# Altium schematic symbol library GRM188R71H104KA93D.SchLib: 1 symbol
Pins are listed as number, name and electrical type; pins without a type are passive.

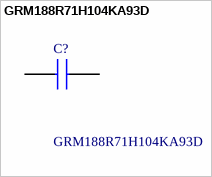
[diagram p0: symbol GRM188R71H104KA93D]

## GRM188R71H104KA93D
designator C?
Ceramic  SMT capacitor 100nF 50Vdc Murata 0603 GRM 100nF Ceramic Multilayer Capacitor, 50 V dc, +125?C, X7R Dielectric, ?10%; Manufacturer_Name: Murata Electronics; Geometry.Height: 0.9mm; Manufacturer_Part_Number: GRM188R71H104KA93D; Mouser Part Number: 81-GRM39X104K50D; Mouser Price/Stock: https://www.mouser.co.uk/ProductDetail/Murata-Electronics/GRM188R71H104KA93D?qs=f7ZljCwbPOm85Y6l%2FNGt7A%3D%3D; Arrow Part Number: GRM188R71H104KA93D; Arrow Price/Stock: https://www.arrow.com/en/products/grm188r71h104ka93d/murata-manufacturing?region=europe; Datasheet Link: https://datasheet.datasheetarchive.com/originals/distributors/Datasheets_SAMA/ec4f1577dddcc7a13ddad897a28002d3.pdf
footprint CAPC1608X90N
pins: 1, 2